# Altium footprint library QUTMS_PowerSupplyLibrary.PcbLib: 2 footprints
Each footprint in its own frame and in the unit in brackets; x right, y up, seen from the top. Pads: shape width x height; smd on the part's side, far side on the other; paste and mask are expansions set on the pad; w line width, h text height; cw(c..) or ccw(c..) is an arc to the next point about the centre after c.
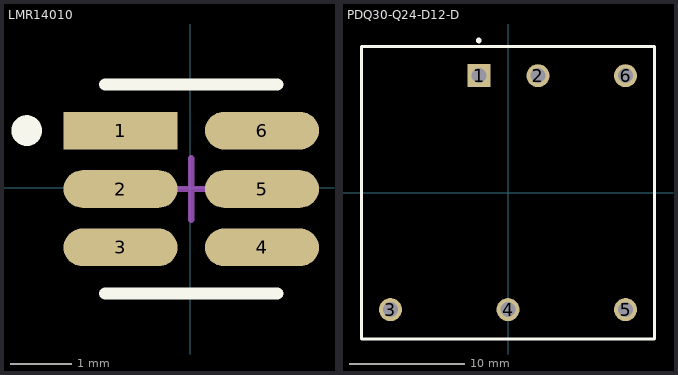
[diagram p0: the footprints below, top view; thin cyan lines are the x and y axes]

## LMR14010 [mm]
pads (6):
  rect 1.854x0.612 smd paste+0 mask+0: 1(-1.136,0.933)
  rrect100% 1.854x0.612 smd paste+0 mask+0: 2(-1.136,-0.017) 3(-1.136,-0.967) 4(1.164,-0.967) 5(1.164,-0.017) 6(1.164,0.933)
Top Overlay:
  circle w0.25: c-2.663,0.933 r0.125
  lines w0.2: -1.386,-1.717 1.414,-1.717 ; -1.386,1.683 1.414,1.683
Mechanical 16:
  lines w0.1: -0.486,-0.017 0.514,-0.017 ; 0.014,-0.517 0.014,0.483
3D body "IC_Texas_Instruments_LMR14010ADDCR_eec.STEP": height 0.25, standoff 0, extent -2.563,-1.967 2.592,1.933

## PDQ30-Q24-D12-D [mm]
pads (6):
  rect 2x2 hole 1.3: 1(-2.5,10.15)
  round 2 hole 1.3: 2(2.6,10.15) 3(-10.2,-10.15) 4(0,-10.15) 5(10.2,-10.15) 6(10.2,10.15)
Top Overlay:
  circle w0.254: c-2.54,13.208 r0.127
  lines w0.254: -12.7,-12.7 -12.7,12.7 12.7,12.7 12.7,-12.7 -12.7,-12.7
3D body "CUI_PDQ30-Q24-D12-D.step": height 10.2, standoff -5.6, extent -12.7,-12.7 12.7,12.7